# EAGLE library part IRS2186STRPBF (library IRS2186STRPBF)
HIGH AND LOW SIDE DRIVER
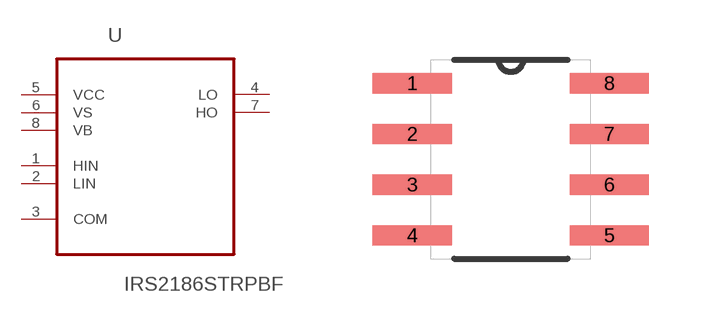
[diagram p0: symbol with the pads of SOIC127P600X175-8N; footprint SOIC127P600X175-8N]

Designator prefix U

## IRS2186STRPBF (AVAILABILITY: Unavailable; DESCRIPTION: IRS2186 Series 600 V 4 A 20 V Supply Dual High And Low Side Driver - SOIC-8; MF: Infineon; MP: IRS2186STRPBF; PACKAGE: SOIC-8 Infineon; PRICE: None)  [SOIC127P600X175-8N]
1  HIN  in
2  LIN  in
3  COM  pas
4  LO  out
5  VCC  pwr
6  VS  pwr
7  HO  out
8  VB  pwr

## Footprint SOIC127P600X175-8N (pad centres in mm)
smd 1.981 x 0.508: 1 -2.464,1.905; 2 -2.464,0.635; 3 -2.464,-0.635; 4 -2.464,-1.905; 5 2.464,-1.905; 6 2.464,-0.635; 7 2.464,0.635; 8 2.464,1.905